# EAGLE library part OPA2227 (library my-ti)
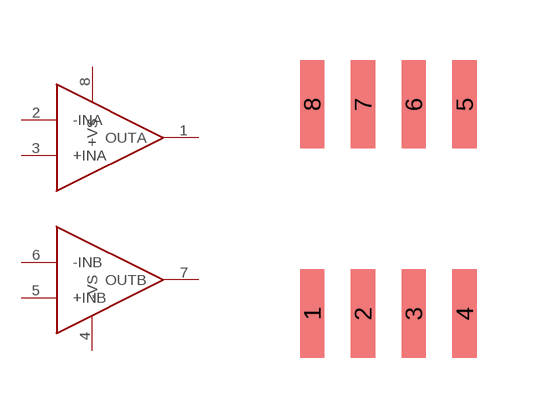
[diagram p1: symbol with the pads of 8-SOIC; footprint 8-SOIC]

Designator prefix -

## OPA22278SOIC  [8-SOIC]
1  OUTA
2  -INA
3  +INA
4  -VS
5  +INB
6  -INB
7  OUTB
8  +VS

## Footprint 8-SOIC (pad centres in mm)
smd 0.61 x 2.21: 1 -1.905,-2.616; 2 -0.635,-2.616; 3 0.635,-2.616; 4 1.905,-2.616; 5 1.905,2.616; 6 0.635,2.616; 7 -0.635,2.616; 8 -1.905,2.616